# EAGLE library part CD74HC04M96 (library ECE380)
Hex Inverter IC
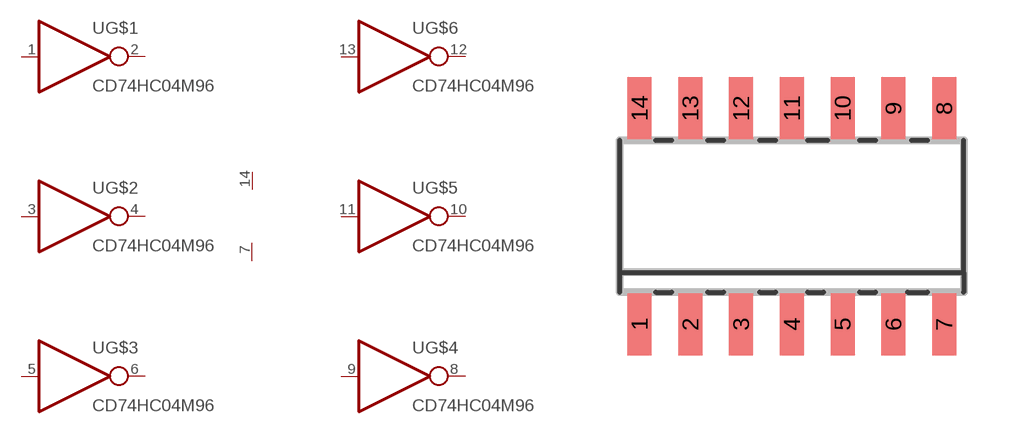
[diagram p0: symbol with the pads of SOIC14; footprint SOIC14]

Designator prefix -; gates G$1=INVERTER G$2=INVERTER G$3=INVERTER G$4=INVERTER G$5=INVERTER G$6=INVERTER G$7=1PWR_1GND

## CD74HC04M96  [SOIC14]
1  G$1:IN
2  G$1:OUT
3  G$2:IN
4  G$2:OUT
5  G$3:IN
6  G$3:OUT
7  G$7:GND
8  G$4:OUT
9  G$4:IN
10  G$5:OUT
11  G$5:IN
12  G$6:OUT
13  G$6:IN
14  G$7:VIN

## Footprint SOIC14 (pad centres in mm)
SOIC14 package
smd 0.6 x 1.55: 1 -3.81,-2.7; 2 -2.54,-2.7; 3 -1.27,-2.7; 4 0,-2.7; 5 1.27,-2.7; 6 2.54,-2.7; 7 3.81,-2.7; 8 3.81,2.7; 9 2.54,2.7; 10 1.27,2.7; 11 0,2.7; 12 -1.27,2.7; 13 -2.54,2.7; 14 -3.81,2.7